# Altium schematic symbol library MB_MAKS.SCHLIB: 70 symbols
Pins are listed as number, name and electrical type; pins without a type are passive.

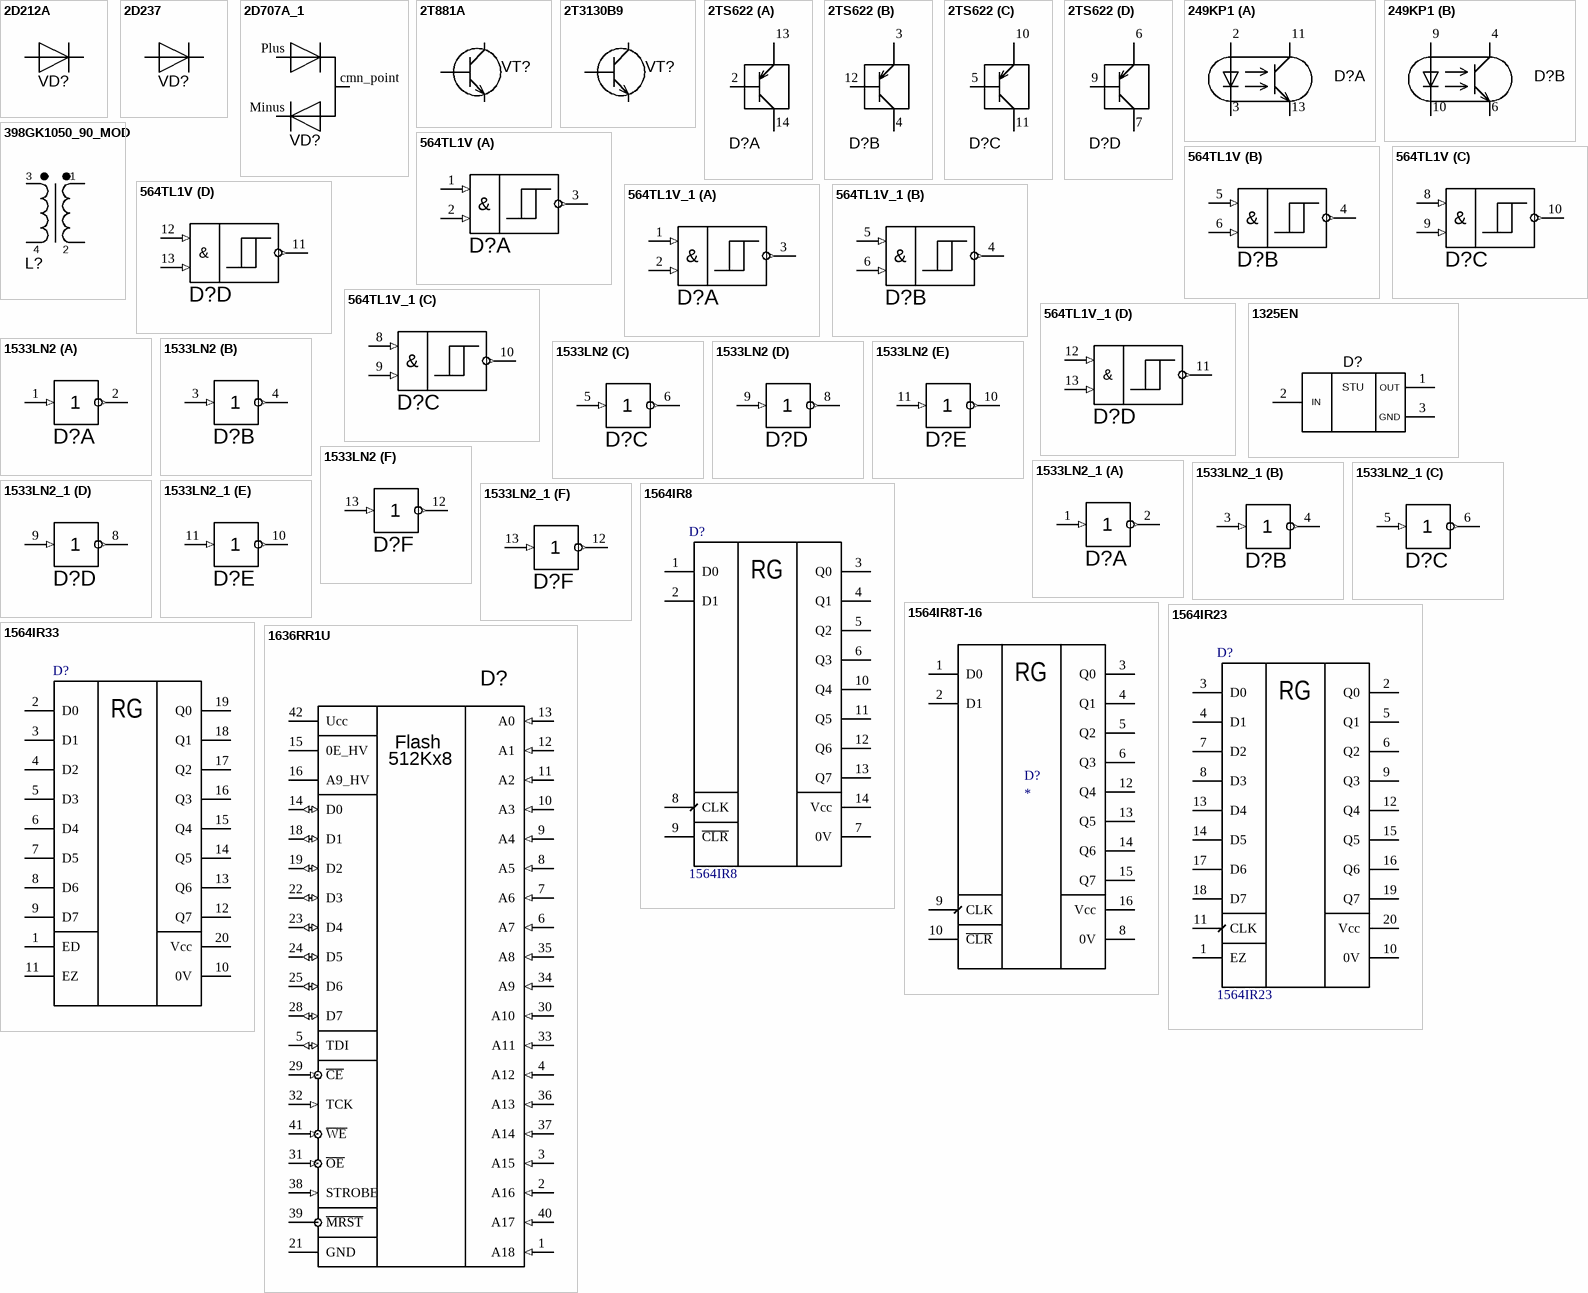
[diagram p0: symbols 2D212A to 1636RR1U]

## 2D212A
designator VD?  (value not drawn)
2Д212А; Specific: Ц23.362.006ТУ; ScrSpecific: АЕЯР.430204.190ТУ; TypeElement: Диод; Screening: ОС; Script: [TypeElement] [Name] [Screening]; Name: 2Д212А
pins: Minus, Plus

## 2D237
designator VD?  (value not drawn)
TypeElement: Диод; Name: 2Д237; Modification: А; Script: [TypeElement] [Name][Modification]; Specific: аА0.339.600ТУ; Value: *
pins: Minus, Plus

## 2D707A_1
designator VD?  (value not drawn)
TypeElement: Диод; Name: 2Д707; Modification: АС9; Script: [TypeElement] [Name][Modification]; Specific: аА0.339.583ТУ; Value: *
pins: cmn_point, Minus, Plus

## 2T881A
designator VT?  (value not drawn)
n-p-n; Specific: аА0.339.644ТУ; ScrSpecific: П0.070.052; TypeElement: Транзистор; Name: 2Т881А; Screening: ОСМ; Script: [TypeElement] [Name] [Screening]; Value: *
pins: B, C, E

## 2T3130B9
designator VT?  (value not drawn)
n-p-n; TypeElement: Транзистор; Name: 2Т3130; Modification: Б9; Screening: ОСМ; Script: [TypeElement] [Name][Modification] [Screening]; Specific: аА0.339.559ТУ; ScrSpecific: П0.070.052; Value: *
pins: B, C, E

## 2TS622
designator D?  (value not drawn)
4x p-n-p; Specific: И93.456.001ТУ/Д6; ScrSpecific: аА0.339.190ТУ; TypeElement: Матрица транзисторная; Name: 2ТС622А; Screening: ОС; Script: [TypeElement] [Name] [Screening]
pins on every part: 1 hidden, 8 hidden
part A pins: 2 Base, 13 Emitter, 14 Collector
part B pins: 3 Emitter, 4 Collector, 12 Base
part C pins: 5 Base, 10 Emitter, 11 Collector
part D pins: 6 Emitter, 7 Collector, 9 Base

## 249KP1
designator D?  (value not drawn)
249КП1; Specific: 1Х3.438.000ТУ; ScrSpecific: П0.070.052; TypeElement: Микросхема; Screening: ОСМ; Script: [TypeElement] [Screening] [Name][Modification]; Modification: С; Name: 249КП1
pins on every part: 1 hidden, 5 hidden, 7 hidden, 8 hidden, 12 hidden, 14 hidden
part A pins: 2 IN-H, 3 IN-L, 11 OUT-C, 13 OUT-E
part B pins: 4 OUT-C, 6 OUT-E, 9 IN-H, 10 IN-L

## 398GK1050_90_MOD
designator L?  (value not drawn)
TypeElement: Дроссель; Name: 398ГК.1050-90; Script: [TypeElement] [Name]; Value: *
text: 3; 1; 4; 2

## 564TL1V
designator D?  (value not drawn)
Specific: бК0.347.064ТУ31; ScrSpecific: П0.070.052; TypeElement: Микросхема; Screening: ОСМ; Name: 564ТЛ1В; Script: [TypeElement] [Screening] [Name]; Value: *
pins on every part: 7 GND (power) hidden to GND, 14 +5V (power) hidden to 5V_1
part A pins: 1 IN (in), 2 IN (in), 3 OUT (out)
part B pins: 4 OUT (out), 5 IN (in), 6 IN (in)
part C pins: 8 IN (in), 9 IN (in), 10 OUT (out)
part D pins: 11 OUT (out), 12 IN (in), 13 IN (in)
part A text: &
part B text: &
part C text: &
part D text: &

## 564TL1V_1
designator D?, comment 564TL1V  (value not drawn)
Specific: бК0.347.064ТУ31; ScrSpecific: П0.070.052; TypeElement: Микросхема; Screening: ОСМ; Name: 564ТЛ1В; Script: [TypeElement] [Screening] [Name]; Value: *
pins on every part: 7 GND (power) hidden to GND, 14 +5V (power) hidden to 5V_2
part A pins: 1 IN (in), 2 IN (in), 3 OUT (out)
part B pins: 4 OUT (out), 5 IN (in), 6 IN (in)
part C pins: 8 IN (in), 9 IN (in), 10 OUT (out)
part D pins: 11 OUT (out), 12 IN (in), 13 IN (in)
part A text: &
part B text: &
part C text: &
part D text: &

## 1325EN
designator D?, comment 1325ЕН  (value not drawn)
Стабилизатор 1.8 В,  2.5 В,  2.85 В,  3 В,  3.3 В, 5 В; TypeElement: Микросхема; Specific: АЕЯР.431420.762-02ТУ; Voltage: 3.3; ExistanceVoltage: 1.8;  2.5;  2.85;  3;  3.3;  5; Script: [TypeElement] [Name][Voltage]У; Name: 1325ЕН; Value: *
pins: 1 OUT, 2 IN, 3 GND
text: STU

## 1533LN2
designator D?  (value not drawn)
PowerPlus: pin14 = +5V; PowerMinus: pin7 = GND; Specific: бК0.347.364-14ТУ; ScrSpecific: П0.070.052; Name: 1533ЛН2; TypeElement: Микросхема; Screening: ОСМ; Script: [TypeElement] [Screening] [Name]; Value: *
pins on every part: 7 GND (power) hidden, 14 +5V (power) hidden to 5V_1
part A pins: 1 IN (in), 2 OUT (out)
part B pins: 3 IN (in), 4 OUT (out)
part C pins: 5 IN (in), 6 OUT (out)
part D pins: 8 OUT (out), 9 IN (in)
part E pins: 10 OUT (out), 11 IN (in)
part F pins: 12 OUT (out), 13 IN (in)

## 1533LN2_1
designator D?, comment 1533LN2  (value not drawn)
PowerPlus: pin14 = +5V; PowerMinus: pin7 = GND; Specific: бК0.347.364-14ТУ; ScrSpecific: П0.070.052; Name: 1533ЛН2; TypeElement: Микросхема; Screening: ОСМ; Script: [TypeElement] [Screening] [Name]; Value: *
pins on every part: 7 GND (power) hidden, 14 +5V (power) hidden to 5V_2
part A pins: 1 IN (in), 2 OUT (out)
part B pins: 3 IN (in), 4 OUT (out)
part C pins: 5 IN (in), 6 OUT (out)
part D pins: 8 OUT (out), 9 IN (in)
part E pins: 10 OUT (out), 11 IN (in)
part F pins: 12 OUT (out), 13 IN (in)

## 1564IR8
designator D?
Микросхема 1564ИР8Т2 ЭП; Script: [TypeElement] [Name][Modification] ЭП; Modification: 2; Specific: АЕЯР.431200.424-12ТУ; TypeElement: Микросхема; Name: 1564ИР8Т
pins: 1 D0, 2 D1, 3 Q0, 4 Q1, 5 Q2, 6 Q3, 7 0V, 8 CLK, 9 ~{CLR}, 10 Q4, 11 Q5, 12 Q6, 13 Q7, 14 Vcc
text: RG

## 1564IR8T-16
designator D?
Микросхема 1564ИР8Т ЭП; Script: [TypeElement] [Name] ЭП; Specific: АЕЯР.431200.424-12ТУ; TypeElement: Микросхема; Name: 1564ИР8Т
pins: 1 D0, 2 D1, 3 Q0, 4 Q1, 5 Q2, 6 Q3, 7 NC hidden, 8 0V, 9 CLK, 10 ~{CLR}, 11 NC hidden, 12 Q4, 13 Q5, 14 Q6, 15 Q7, 16 Vcc
text: RG

## 1564IR23
designator D?
Микросхема 1564ИР23Т1 ЭП; Script: [TypeElement] [Name][Modification] ЭП; Modification: 1; Specific: АЕЯР.431200.424-29ТУ; TypeElement: Микросхема; Name: 1564ИР23Т
pins: 1 EZ, 2 Q0, 3 D0, 4 D1, 5 Q1, 6 Q2, 7 D2, 8 D3, 9 Q3, 10 0V, 11 CLK, 12 Q4, 13 D4, 14 D5, 15 Q5, 16 Q6, 17 D6, 18 D7, 19 Q7, 20 Vcc
text: RG

## 1564IR33
designator D?  (value not drawn)
Script: [TypeElement] [Name][Modification] ЭП; TypeElement: Микросхема; Name: 1564ИР33Т; Modification: 1; Specific: АЕЯР.431200.424-29ТУ
pins: 1 ED, 2 D0, 3 D1, 4 D2, 5 D3, 6 D4, 7 D5, 8 D6, 9 D7, 10 0V, 11 EZ, 12 Q7, 13 Q6, 14 Q5, 15 Q4, 16 Q3, 17 Q2, 18 Q1, 19 Q0, 20 Vcc
text: RG

## 1636RR1U
designator D?  (value not drawn)
TypeElement: Микросхема; Name: 1636РР1АУ; Script: [TypeElement] [Name]; Specific: АЕЯР.431210.647ТУ; Value: *
pins: 1 A18 (in), 2 A16 (in), 3 A15 (in), 4 A12 (in), 5 TDI (io), 6 A7 (in), 7 A6 (in), 8 A5 (in), 9 A4 (in), 10 A3 (in), 11 A2 (in), 12 A1 (in), 13 A0 (in), 14 D0 (io), 15 0E_HV, 16 A9_HV, 17 hidden, 18 D1 (io), 19 D2 (io), 20 hidden, 21 GND, 22 D3 (io), 23 D4 (io), 24 D5 (io), 25 D6 (io), 26 hidden, 27 hidden, 28 D7 (io), 29 ~{CE} (in), 30 A10 (in), 31 ~{OE} (in), 32 TCK (in), 33 A11 (in), 34 A9 (in), 35 A8 (in), 36 A13 (in), 37 A14 (in), 38 STROBE (in), 39 ~{MRST}, 40 A17 (in), 41 ~{WE} (in), 42 Ucc
text: Flash; 512Kx8

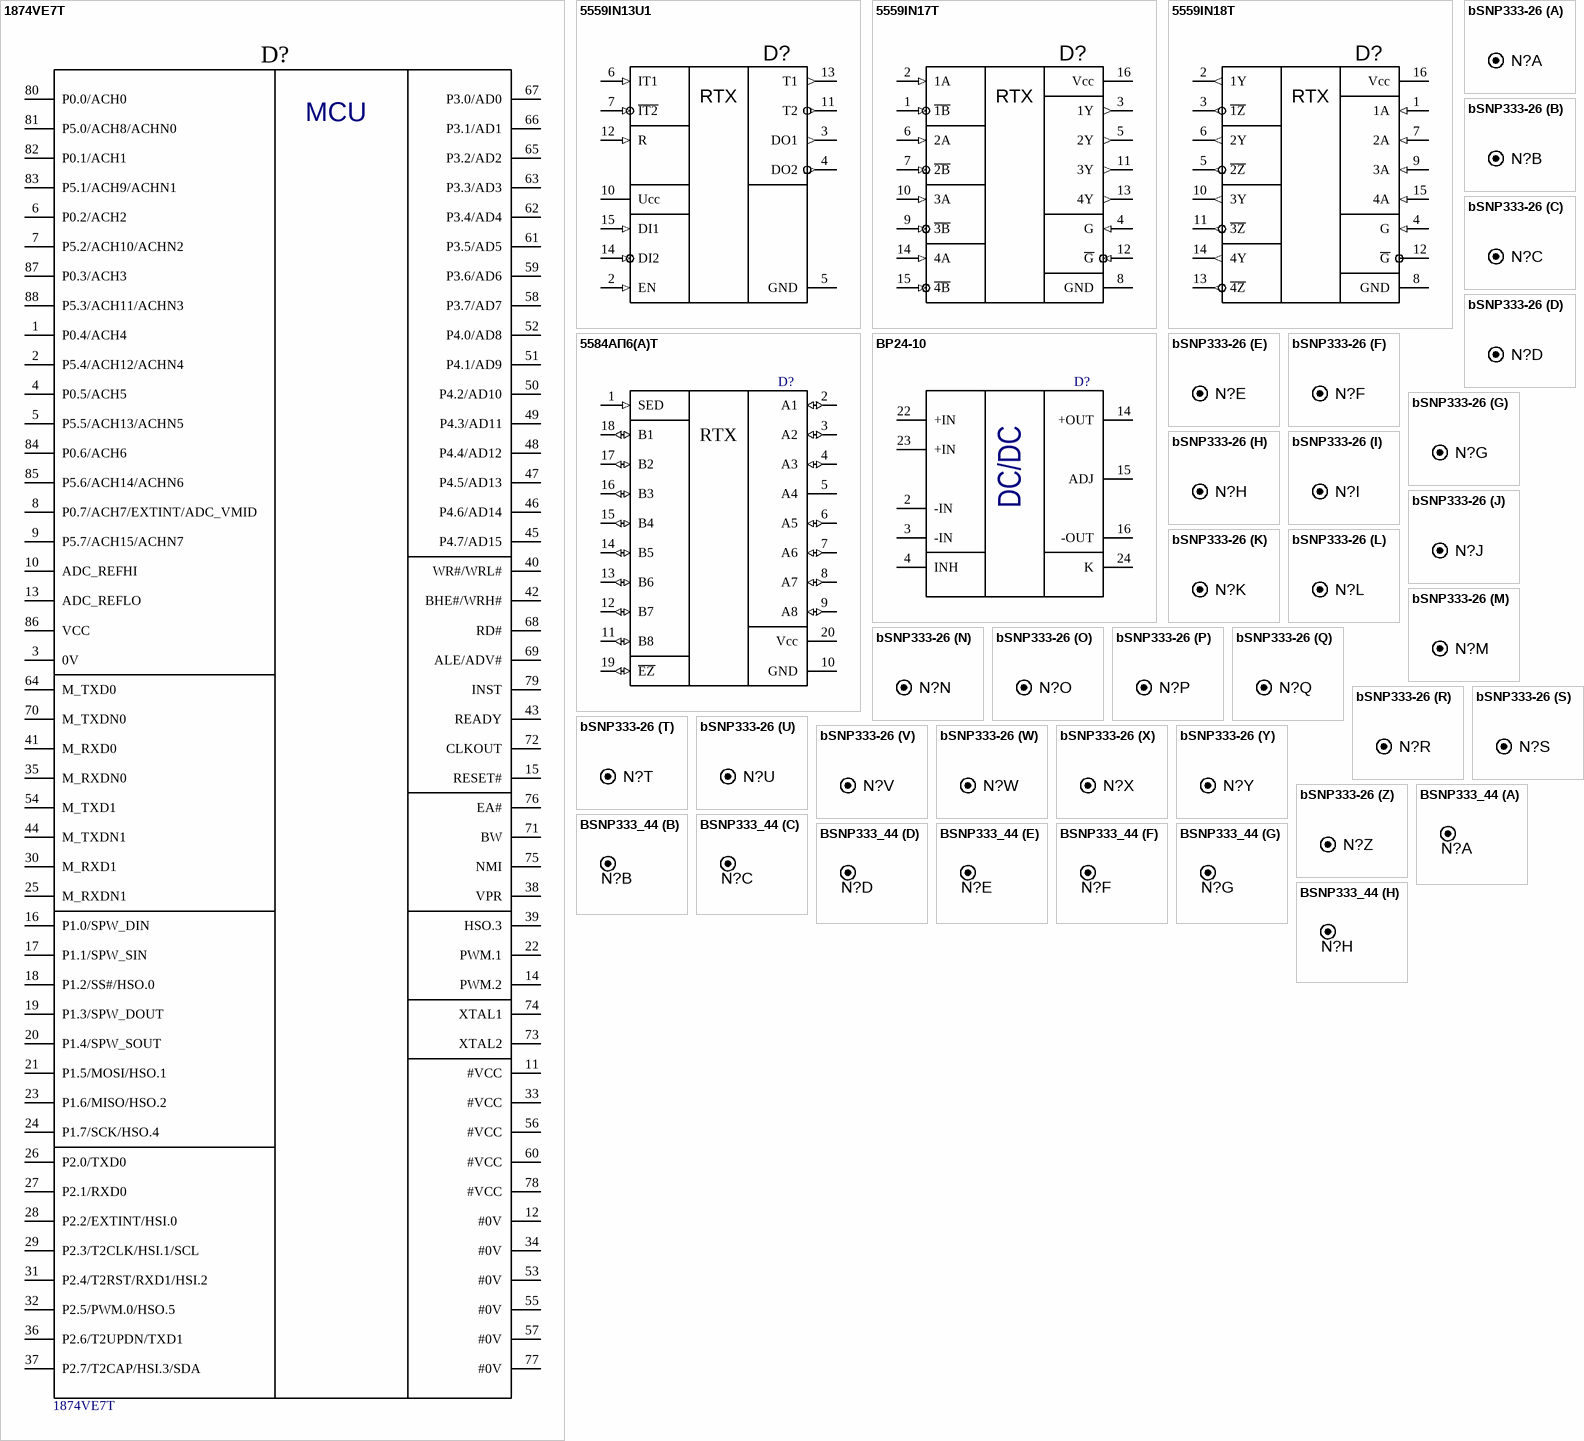
[diagram p1: symbols 1874VE7T to BSNP333_44]

## 1874VE7T
designator D?
Script: [TypeElement] [Name]; TypeElement: Микросхема; Name: 1874ВЕ7БТ; Specific: АЕЯР.431280.903ТУ
pins: 1 P0.4/ACH4, 2 P5.4/ACH12/ACHN4, 3 0V, 4 P0.5/ACH5, 5 P5.5/ACH13/ACHN5, 6 P0.2/ACH2, 7 P5.2/ACH10/ACHN2, 8 P0.7/ACH7/EXTINT/ADC_VMID, 9 P5.7/ACH15/ACHN7, 10 ADC_REFHI, 11 #VCC, 12 #0V, 13 ADC_REFLO, 14 PWM.2, 15 RESET#, 16 P1.0/SPW_DIN, 17 P1.1/SPW_SIN, 18 P1.2/SS#/HSO.0, 19 P1.3/SPW_DOUT, 20 P1.4/SPW_SOUT, 21 P1.5/MOSI/HSO.1, 22 PWM.1, 23 P1.6/MISO/HSO.2, 24 P1.7/SCK/HSO.4, 25 M_RXDN1, 26 P2.0/TXD0, 27 P2.1/RXD0, 28 P2.2/EXTINT/HSI.0, 29 P2.3/T2CLK/HSI.1/SCL, 30 M_RXD1, 31 P2.4/T2RST/RXD1/HSI.2, 32 P2.5/PWM.0/HSO.5, 33 #VCC, 34 #0V, 35 M_RXDN0, 36 P2.6/T2UPDN/TXD1, 37 P2.7/T2CAP/HSI.3/SDA, 38 VPR, 39 HSO.3, 40 WR#/WRL#, 41 M_RXD0, 42 BHE#/WRH#, 43 READY, 44 M_TXDN1, 45 P4.7/AD15, 46 P4.6/AD14, 47 P4.5/AD13, 48 P4.4/AD12, 49 P4.3/AD11, 50 P4.2/AD10, 51 P4.1/AD9, 52 P4.0/AD8, 53 #0V, 54 M_TXD1, 55 #0V, 56 #VCC, 57 #0V, 58 P3.7/AD7, 59 P3.6/AD6, 60 #VCC, 61 P3.5/AD5, 62 P3.4/AD4, 63 P3.3/AD3, 64 M_TXD0, 65 P3.2/AD2, 66 P3.1/AD1, 67 P3.0/AD0, 68 RD#, 69 ALE/ADV#, 70 M_TXDN0, 71 BW, 72 CLKOUT, 73 XTAL2, 74 XTAL1, 75 NMI, 76 EA#, 77 #0V, 78 #VCC, 79 INST, 80 P0.0/ACH0, 81 P5.0/ACH8/ACHN0, 82 P0.1/ACH1, 83 P5.1/ACH9/ACHN1, 84 P0.6/ACH6, 85 P5.6/ACH14/ACHN6, 86 VCC, 87 P0.3/ACH3, 88 P5.3/ACH11/ACHN3
text: MCU

## 5559IN13U1
designator D?  (value not drawn)
TypeElement: Микросхема; Name: 5559ИН13У1; Script: [TypeElement] [Name]; Specific: АЕЯР.431230.652ТУ; Value: *
pins: 1 hidden, 2 EN (in), 3 DO1 (out), 4 DO2 (out), 5 GND, 6 IT1 (in), 7 ~{IT2} (in), 8 hidden, 9 hidden, 10 Ucc (power), 11 T2 (out), 12 R (in), 13 T1 (out), 14 DI2 (in), 15 DI1 (in), 16 hidden
text: RTX

## 5559IN17T
designator D?  (value not drawn)
TypeElement: Микросхема; Name: 5559ИН17Т; Script: [TypeElement] [Name]; Specific: АЕЯР.431230.652ТУ; Value: *
pins: 1 ~{1В} (in), 2 1A (in), 3 1Y (out), 4 G (in), 5 2Y (out), 6 2А (in), 7 ~{2В} (in), 8 GND, 9 ~{3В} (in), 10 3А (in), 11 3Y (out), 12 ~{G} (in), 13 4Y (out), 14 4А (in), 15 ~{4В} (in), 16 Vcc
text: RTX

## 5559IN18T
designator D?  (value not drawn)
TypeElement: Микросхема; Name: 5559ИН18Т; Script: [TypeElement] [Name]; Specific: АЕЯР.431230.652ТУ; Value: *
pins: 1 1A (in), 2 1Y (out), 3 ~{1Z} (out), 4 G (in), 5 ~{2Z} (out), 6 2Y (out), 7 2А (in), 8 GND, 9 3А (in), 10 3Y (out), 11 ~{3Z} (out), 12 ~{G}, 13 ~{4Z} (out), 14 4Y (out), 15 4А (in), 16 Vcc
text: RTX

## 5584АП6(А)Т
designator D?  (value not drawn)
Script: [TypeElement] [Name]; TypeElement: Микросхема; Name: 5584АП6(А)Т; Specific: *; Value: *
pins: 1 SED (in), 2 A1 (io), 3 A2 (io), 4 A3 (io), 5 A4, 6 А5 (io), 7 А6 (io), 8 А7 (io), 9 А8 (io), 10 GND, 11 B8 (io), 12 B7 (io), 13 B6 (io), 14 B5 (io), 15 B4 (io), 16 B3 (io), 17 B2 (io), 18 B1 (io), 19 ~{EZ} (io), 20 Vcc (power)
text: RTX

## BP24-10
designator D?  (value not drawn)
ВР24-10-5/2; Script: [Name]-[Modification]; Specific: ТУ 6390-001-61704169-10; Modification: 5/2; Name: ВР24-10
pins: 2 -IN, 3 -IN, 4 INH, 9 NC hidden, 11 NC hidden, 14 +OUT, 15 ADJ, 16 -OUT, 22 +IN, 23 +IN, 24 K
text: DC/DC

## bSNP333-26
designator N?  (value not drawn)
board analog SNP333-26
part A pins: 1
part B pins: 2
part C pins: 3
part D pins: 4
part E pins: 5
part F pins: 6
part G pins: 7
part H pins: 8
part I pins: 9
part J pins: 10
part K pins: 11
part L pins: 12
part M pins: 13
part N pins: 14
part O pins: 15
part P pins: 16
part Q pins: 17
part R pins: 18
part S pins: 19
part T pins: 20
part U pins: 21
part V pins: 22
part W pins: 23
part X pins: 24
part Y pins: 25
part Z pins: 26

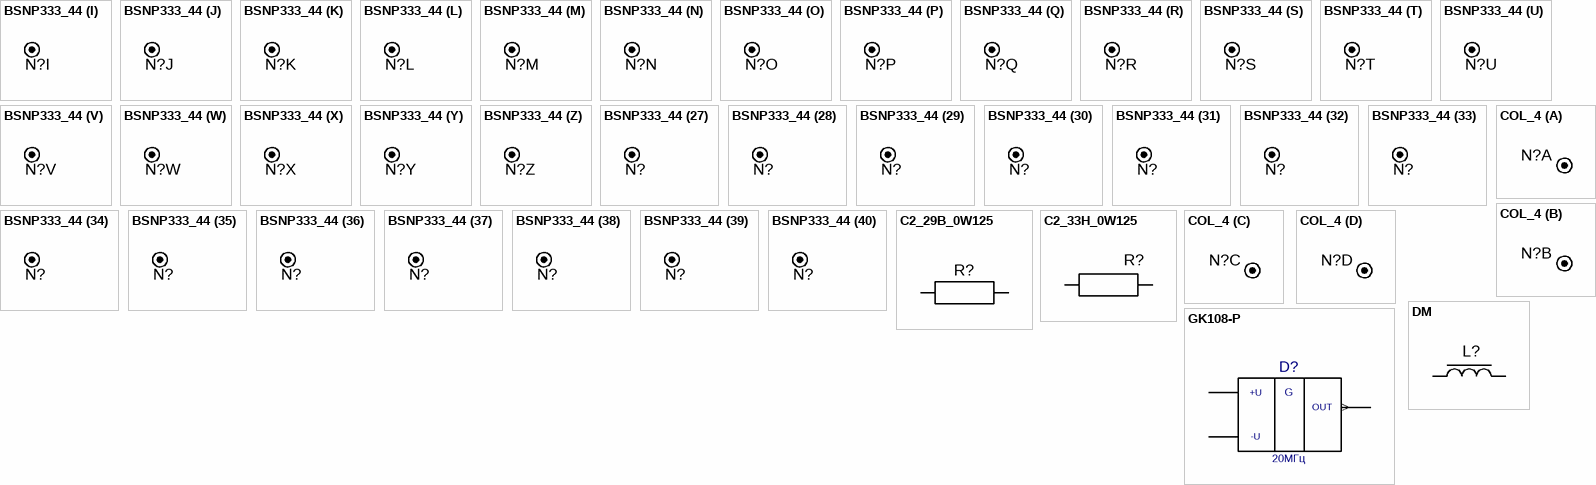
[diagram p2: symbols BSNP333_44 to GK108-P]

## BSNP333_44
designator N?  (value not drawn)
печатный аналог соединителя СНП333-44; Value: *
part A pins: 1
part B pins: 2
part C pins: 3
part D pins: 4
part E pins: 5
part F pins: 6
part G pins: 7
part H pins: 8
part I pins: 9
part J pins: 10
part K pins: 11
part L pins: 12
part M pins: 13
part N pins: 14
part O pins: 15
part P pins: 16
part Q pins: 17
part R pins: 18
part S pins: 19
part T pins: 20
part U pins: 21
part V pins: 22
part W pins: 23
part X pins: 24
part Y pins: 25
part Z pins: 26
part 27 pins: 27
part 28 pins: 28
part 29 pins: 29
part 30 pins: 30
part 31 pins: 31
part 32 pins: 32
part 33 pins: 33
part 34 pins: 34
part 35 pins: 35
part 36 pins: 36
part 37 pins: 37
part 38 pins: 38
part 39 pins: 39
part 40 pins: 40
part 41 pins: 41
part 42 pins: 42
part 43 pins: 43
part 44 pins: 44

## C2_29B_0W125
designator R?  (value not drawn)
Value: {Value}; TypeElement: Резистор; Screening: ОС; Name: С2-29В-0,125; Tolerance: ±0,5%; Modification: 1,0-А; Script: [TypeElement] [Screening] [Name]-[Value][Tolerance]-[Modification]; Specific: ОЖ0.467.099ТУ; ScrSpecific: ОЖ0.467.138ТУ
pins: 1, 2

## C2_33H_0W125
designator R?  (value not drawn)
Value: 1 Ом; Specific: ОЖ0.467.093ТУ; ScrSpecific: ОЖ0.467.138ТУ; TypeElement: Резистор; Screening: ОС; Name: С2-33Н-0,125; Tolerance: ±5%; Script: [TypeElement] [Screening] [Name]-[Value]Ом[Tolerance]-[Modification]; Modification: А-Д-В
pins: 1 i/o, 2 i/o

## COL_4
designator N?  (value not drawn)
Value: *
part A pins: 1
part B pins: 2
part C pins: 3
part D pins: 4

## DM
designator L?  (value not drawn)
Value: 11; TypeElement: Дроссель высокочастотный; Name: ДМ; Note: Current - ток (А), Value - индуктивность (мкГн); Script: [TypeElement] [Name]-[Current]-[Value][Tolerance]В; Specific: ЦКСН.671342.001ТУ; Current: 0,8; Tolerance: ±5%
pins: 1, 2

## GK108-P
designator D?  value 20МГц  (hidden comment: GK108-P)
ГК108-П; TypeElement: Генератор кварцевый; Frequency: 20 М; Script: [TypeElement] [Name]-[Frequency]; Specific: АФТП.433520.007ТУ; Name: ГК108-П
pins: 1 hidden, 2 -U, 3 OUT (out), 4 +U
text: G

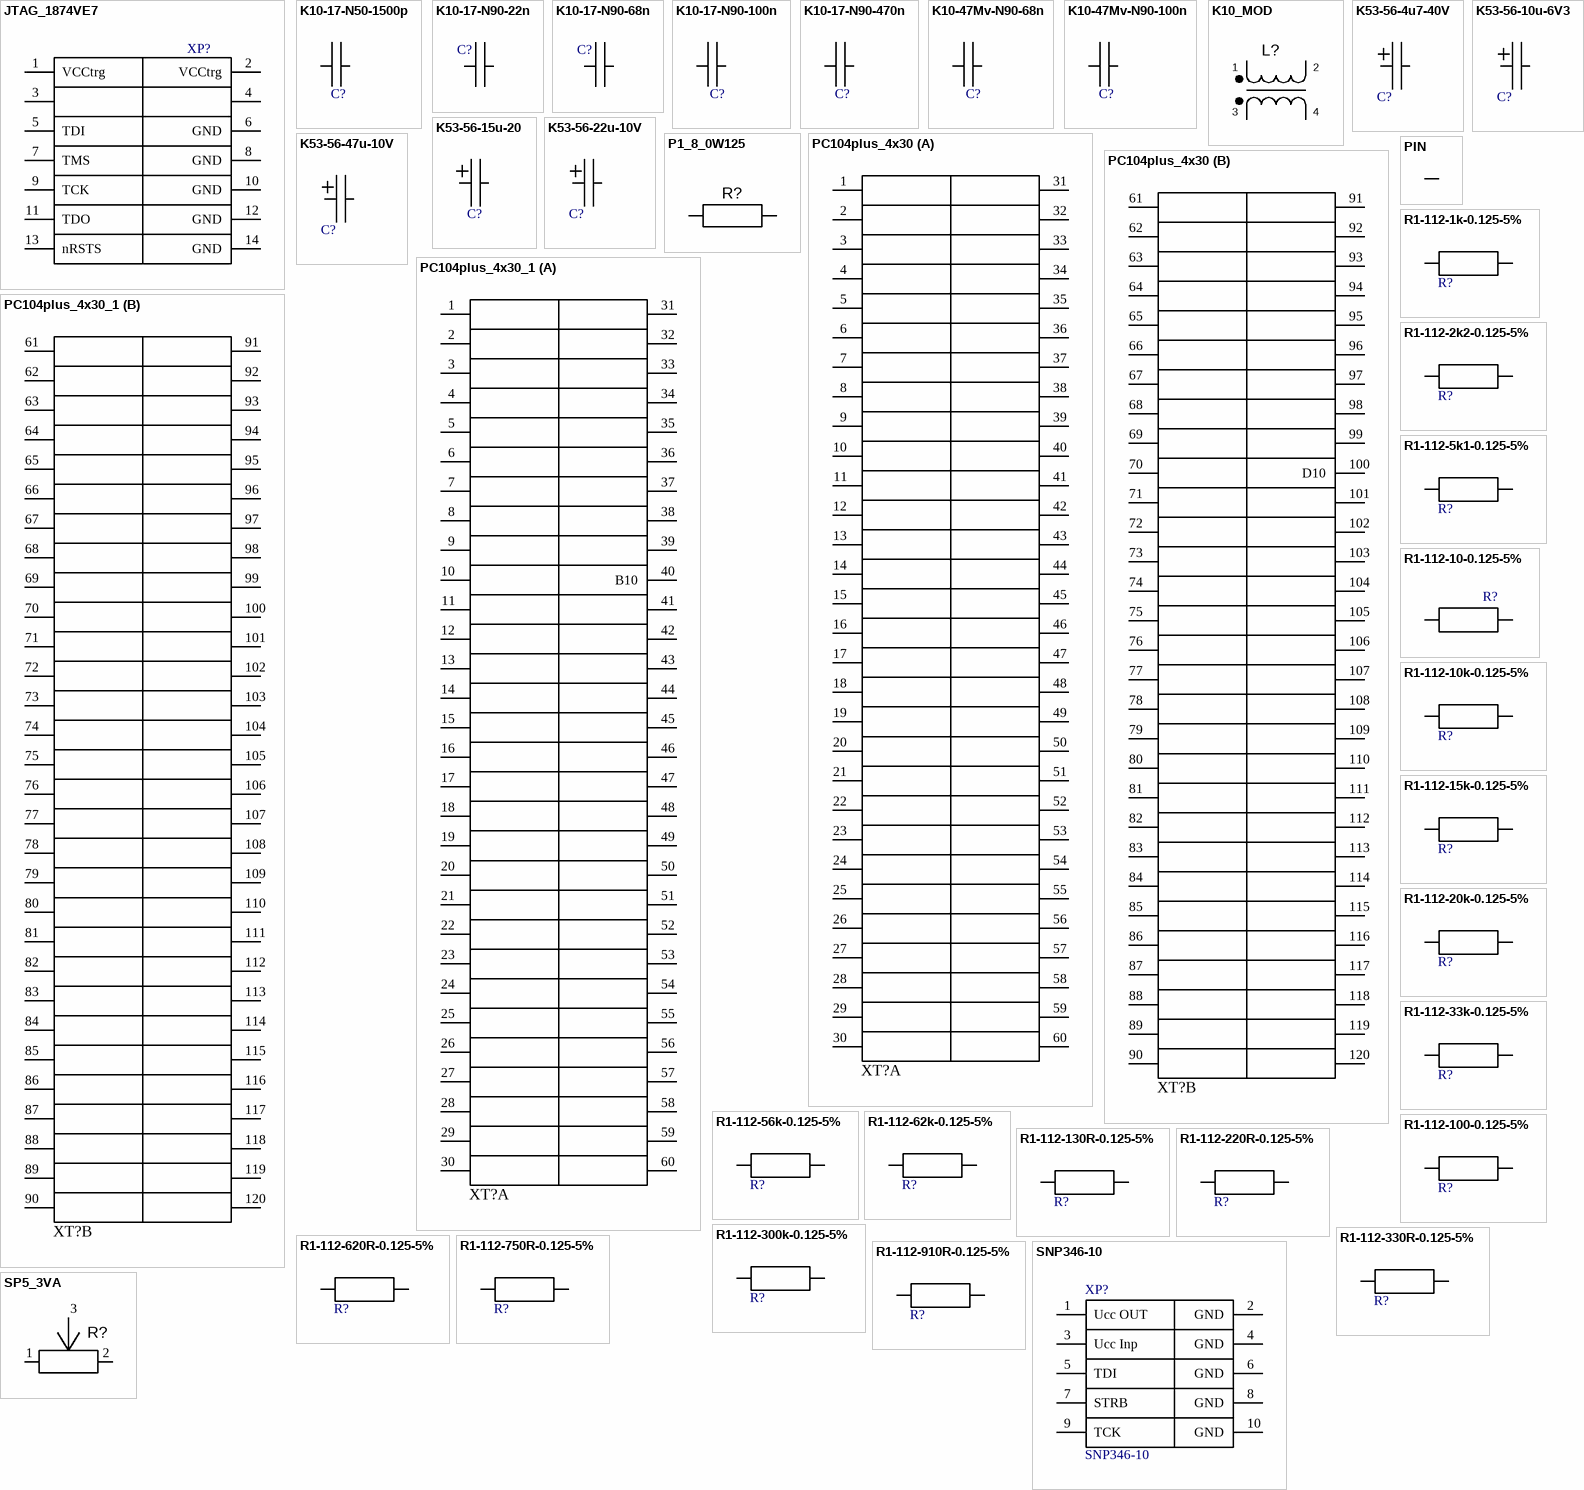
[diagram p3: symbols JTAG_1874VE7 to SP5_3VA]

## JTAG_1874VE7
designator XP?  (value not drawn)
Соединитель СНП346-14ВП21-1-В; Script: [TypeElement] [Name]; Specific: РЮМК.430420.011ТУ; TypeElement: Соединитель; Name: СНП346-14ВП21-1-В
pins: 1 VCCtrg, 2 VCCtrg, 3, 4, 5 TDI, 6 GND, 7 TMS, 8 GND, 9 TCK, 10 GND, 11 TDO, 12 GND, 13 nRSTS, 14 GND

## K10-17-N50-1500p
designator C?  (value not drawn)
Конденсатор К10-17с-в-Н50-1500 пФ; Specific: ОЖ0.460.107ТУ; ScrSpecific: ОЖ0.460.183ТУ; Script: Конденсатор [Screening] К10-17с-в-Н50-1500 пФ; Screening: ОС
pins: 1, 2

## K10-17-N90-22n
designator C?  (value not drawn)
Конденсатор К10-17в-Н90-0,022мкФ; Specific: ОЖ0.460.107ТУ; ScrSpecific: ОЖ0.460.183ТУ; Script: Конденсатор [Screening] К10-17в-Н90-0,022 мкФ; Screening: ОС
pins: 1, 2

## K10-17-N90-68n
designator C?  (value not drawn)
Конденсатор К10-17в-Н90-0,068мкФ; Specific: ОЖ0.460.107ТУ; ScrSpecific: ОЖ0.460.183ТУ; Script: Конденсатор [Screening] К10-17в-Н90-0,068 мкФ; Screening: ОС
pins: 1, 2

## K10-17-N90-100n
designator C?  (value not drawn)
Конденсатор К10-17с-в-Н90-0,1 мкФ; Specific: ОЖ0.460.107ТУ; ScrSpecific: ОЖ0.460.183ТУ; Script: Конденсатор [Screening] К10-17с-в-Н90-0,1 мкФ; Screening: ОС
pins: 1, 2

## K10-17-N90-470n
designator C?  (value not drawn)
Конденсатор К10-17с-в-Н90-0,47 мкФ; Specific: ОЖ0.460.107ТУ; ScrSpecific: ОЖ0.460.183ТУ; Script: Конденсатор [Screening] К10-17с-в-Н90-0,47 мкФ; Screening: ОС
pins: 1, 2

## K10-47Mv-N90-68n
designator C?  (value not drawn)
Конденсатор К10-47Мв-3216М-100 В-0,068 мкФ-Н90; Specific: ОЖ0.460.174-М ТУ; Script: Конденсатор К10-47Мв-3216М-100 В-0,068 мкФ-Н90
pins: 1, 2

## K10-47Mv-N90-100n
designator C?  (value not drawn)
Конденсатор К10-47Мв-4532М-100 В-0,1 мкФ-Н90; Specific: ОЖ0.460.174-М ТУ; Script: Конденсатор К10-47Мв-4532М-100 В-0,1 мкФ-Н90
pins: 1, 2

## K10_MOD
designator L?  (value not drawn)
TypeElement: Дроссель; Name: К10; Script: [TypeElement] [Name]; Specific: СЛИЮ.671342.002; Value: *
text: 1; 2; 3; 4

## K53-56-4u7-40V
designator C?  (value not drawn)
Конденсатор К53-56-40 В-4,7 мкФ±20%-В; Specific: АЖЯР.673546.001ТУ; Script: Конденсатор К53-56-40 В-4,7 мкФ±20%-В
pins: 1 plus, 2 minus

## K53-56-10u-6V3
designator C?  (value not drawn)
Конденсатор К53-56-6,3 В-10 мкФ±20%-В; Specific: АЖЯР.673546.001ТУ; Script: Конденсатор К53-56-6,3 В-10 мкФ±20%-В
pins: 1 plus, 2 minus

## K53-56-15u-20
designator C?  (value not drawn)
Конденсатор К53-56-20 В-15 мкФ±20%-В; Specific: АЖЯР.673546.001ТУ; Script: Конденсатор К53-56-20 В-15 мкФ±20%-В
pins: 1 plus, 2 minus

## K53-56-22u-10V
designator C?  (value not drawn)
Конденсатор К53-56-10 В-22 мкФ±20%-В; Specific: АЖЯР.673546.001ТУ; Script: Конденсатор К53-56-10 В-22 мкФ±20%-В
pins: 1 plus, 2 minus

## K53-56-47u-10V
designator C?  (value not drawn)
Конденсатор К53-56-10 В-47 мкФ±20%-В; Specific: АЖЯР.673546.001ТУ; Script: Конденсатор К53-56-10 В-47 мкФ±20%-В
pins: 1 plus, 2 minus

## P1_8_0W125
designator R?  (value not drawn)
chip; Value: {Value}; TypeElement: Резистор; Screening: ОСМ; Name: Р1-8МП-0,125; Tolerance: {±0,5%}; Modification: 0,5-Л; Script: [TypeElement] [Screening] [Name]-[Value]Ом[Tolerance]-[Modification]; ExistTolerance: ±0,1%; ±0,25%; ±0,5%; ±1%; Voltage: 50 В; Specific: ОЖ0.467.164ТУ; ScrSpecific: П0.070.052; CaseType: 0805
pins: 1, 2

## PC104plus_4x30
designator XT?  (value not drawn)
PC104+ KPC120; Modification: SR060TAN; Script: [TypeElement] [Name][Modification]; TypeElement: Соединитель; Name: KPC120
part A pins: 1 A1, 2 A2, 3 A3, 4 A4, 5 A5, 6 A6, 7 A7, 8 A8, 9 A9, 10 A10, 11 A11, 12 A12, 13 A13, 14 A14, 15 A15, 16 A16, 17 A17, 18 A18, 19 A19, 20 A20, 21 A21, 22 A22, 23 A23, 24 A24, 25 A25, 26 A26, 27 A27, 28 A28, 29 A29, 30 A30, 31 B1, 32 B2, 33 B3, 34 B4, 35 B5, 36 B6, 37 B7, 38 B8, 39 B9, 40 B10, 41 B11, 42 B12, 43 B13, 44 B14, 45 B15, 46 B16, 47 B17, 48 B18, 49 B19, 50 B20, 51 B21, 52 B22, 53 B23, 54 B24, 55 B25, 56 B26, 57 B27, 58 B28, 59 B29, 60 B30
part B pins: 61 C1, 62 C2, 63 C3, 64 C4, 65 C5, 66 C6, 67 C7, 68 C8, 69 C9, 70 C10, 71 C11, 72 C12, 73 C13, 74 C14, 75 C15, 76 C16, 77 C17, 78 C18, 79 C19, 80 C20, 81 C21, 82 C22, 83 C23, 84 C24, 85 C25, 86 C26, 87 C27, 88 C28, 89 C29, 90 C30, 91 D1, 92 D2, 93 D3, 94 D4, 95 D5, 96 D6, 97 D7, 98 D8, 99 D9, 100 D10, 101 D11, 102 D12, 103 D13, 104 D14, 105 D15, 106 D16, 107 D17, 108 D18, 109 D19, 110 D20, 111 D21, 112 D22, 113 D23, 114 D24, 115 D25, 116 D26, 117 D27, 118 D28, 119 D29, 120 D30

## PC104plus_4x30_1
designator XT?, comment PC104plus_4x30  (value not drawn)
PC104+ KPC120; Modification: SR060TAN; Script: [TypeElement] [Name][Modification]; TypeElement: Соединитель; Name: KPC120
part A pins: 1 A1, 2 A2, 3 A3, 4 A4, 5 A5, 6 A6, 7 A7, 8 A8, 9 A9, 10 A10, 11 A11, 12 A12, 13 A13, 14 A14, 15 A15, 16 A16, 17 A17, 18 A18, 19 A19, 20 A20, 21 A21, 22 A22, 23 A23, 24 A24, 25 A25, 26 A26, 27 A27, 28 A28, 29 A29, 30 A30, 31 B1, 32 B2, 33 B3, 34 B4, 35 B5, 36 B6, 37 B7, 38 B8, 39 B9, 40 B10, 41 B11, 42 B12, 43 B13, 44 B14, 45 B15, 46 B16, 47 B17, 48 B18, 49 B19, 50 B20, 51 B21, 52 B22, 53 B23, 54 B24, 55 B25, 56 B26, 57 B27, 58 B28, 59 B29, 60 B30
part B pins: 61 C1, 62 C2, 63 C3, 64 C4, 65 C5, 66 C6, 67 C7, 68 C8, 69 C9, 70 C10, 71 C11, 72 C12, 73 C13, 74 C14, 75 C15, 76 C16, 77 C17, 78 C18, 79 C19, 80 C20, 81 C21, 82 C22, 83 C23, 84 C24, 85 C25, 86 C26, 87 C27, 88 C28, 89 C29, 90 C30, 91 D1, 92 D2, 93 D3, 94 D4, 95 D5, 96 D6, 97 D7, 98 D8, 99 D9, 100 D10, 101 D11, 102 D12, 103 D13, 104 D14, 105 D15, 106 D16, 107 D17, 108 D18, 109 D19, 110 D20, 111 D21, 112 D22, 113 D23, 114 D24, 115 D25, 116 D26, 117 D27, 118 D28, 119 D29, 120 D30

## PIN
designator L?  (value not drawn)
Value: *
pins: 1

## R1-112-1k-0.125-5%
designator R?  (value not drawn)
Резистор Р1-112-0,125-1 кОм±5%-К-А; Specific: ДАРГ.434110.004ТУ; Script: Резистор Р1-112-0,125-1 кОм±5%-К-А
pins: 1, 2

## R1-112-2k2-0.125-5%
designator R?  (value not drawn)
Резистор Р1-112-0,125-2,2 кОм±5%-К-А; Specific: ДАРГ.434110.004ТУ; Script: Резистор Р1-112-0,125-2,2 кОм±5%-К-А
pins: 1, 2

## R1-112-5k1-0.125-5%
designator R?  (value not drawn)
Резистор Р1-112-0,125-5,1 кОм±5%-К-А; Specific: ДАРГ.434110.004ТУ; Script: Резистор Р1-112-0,125-5,1 кОм±5%-К-А
pins: 1, 2

## R1-112-10-0.125-5%
designator R?  (value not drawn)
Резистор Р1-112-0,125-10 Ом±5%-Л-А; Specific: ДАРГ.434110.004ТУ; Script: Резистор Р1-112-0,125-100 Ом±5%-Л-А
pins: 1, 2

## R1-112-10k-0.125-5%
designator R?  (value not drawn)
Резистор Р1-112-0,125-10 кОм±5%-К-А; Specific: ДАРГ.434110.004ТУ; Script: Резистор Р1-112-0,125-10 кОм±5%-К-А
pins: 1, 2

## R1-112-15k-0.125-5%
designator R?  (value not drawn)
Резистор Р1-112-0,125-15 кОм±5%-К-А; Specific: ДАРГ.434110.004ТУ; Script: Резистор Р1-112-0,125-15 кОм±5%-К-А
pins: 1, 2

## R1-112-20k-0.125-5%
designator R?  (value not drawn)
Резистор Р1-112-0,125-20 кОм±5%-К-А; Specific: ДАРГ.434110.004ТУ; Script: Резистор Р1-112-0,125-20 кОм±5%-К-А
pins: 1, 2

## R1-112-33k-0.125-5%
designator R?  (value not drawn)
Резистор Р1-112-0,125-33 кОм±5%-К-А; Specific: ДАРГ.434110.004ТУ; Script: Резистор Р1-112-0,125-33 кОм±5%-К-А
pins: 1, 2

## R1-112-56k-0.125-5%
designator R?  (value not drawn)
Резистор Р1-112-0,125-56 кОм±5%-К-А; Specific: ДАРГ.434110.004ТУ; Script: Резистор Р1-112-0,125-56 кОм±5%-К-А
pins: 1, 2

## R1-112-62k-0.125-5%
designator R?  (value not drawn)
Резистор Р1-112-0,125-62 кОм±5%-К-А; Specific: ДАРГ.434110.004ТУ; Script: Резистор Р1-112-0,125-62 кОм±5%-К-А
pins: 1, 2

## R1-112-100-0.125-5%
designator R?  (value not drawn)
Резистор Р1-112-0,125-100 Ом±5%-К-А; Specific: ДАРГ.434110.004ТУ; Script: Резистор Р1-112-0,125-100 Ом±5%-К-А
pins: 1, 2

## R1-112-130R-0.125-5%
designator R?  (value not drawn)
Резистор Р1-112-0,125-130 Ом±5%-К-А-"А"; Specific: ДАРГ.434110.004ТУ; Script: Резистор Р1-112-0,125-130 Ом±5%-К-А-"А"
pins: 1, 2

## R1-112-220R-0.125-5%
designator R?  (value not drawn)
Резистор Р1-112-0,125-220 Ом±5%-К-А; Specific: ДАРГ.434110.004ТУ; Script: Резистор Р1-112-0,125-220 Ом±5%-К-А
pins: 1, 2

## R1-112-300k-0.125-5%
designator R?  (value not drawn)
Резистор Р1-112-0,125-300 кОм±5%-Л-А; Specific: ДАРГ.434110.004ТУ; Script: Резистор Р1-112-0,125-300 кОм±5%-Л-А
pins: 1, 2

## R1-112-330R-0.125-5%
designator R?  (value not drawn)
Резистор Р1-112-0,125-330 Ом±5%-К-А-"А"; Specific: ДАРГ.434110.004ТУ; Script: Резистор Р1-112-0,125-330 Ом±5%-К-А-"А"
pins: 1, 2

## R1-112-620R-0.125-5%
designator R?  (value not drawn)
Резистор Р1-112-0,125-620 Ом±5%-К-А-"А"; Specific: ДАРГ.434110.004ТУ; Script: Резистор Р1-112-0,125-620 Ом±5%-К-А-"А"
pins: 1, 2

## R1-112-750R-0.125-5%
designator R?  (value not drawn)
Резистор Р1-112-0,125-750 Ом±5%-К-А-"А"; Specific: ДАРГ.434110.004ТУ; Script: Резистор Р1-112-0,125-750 Ом±5%-К-А-"А"
pins: 1, 2

## R1-112-910R-0.125-5%
designator R?  (value not drawn)
Резистор Р1-112-0,125-910 Ом±5%-К-А-"А"; Specific: ДАРГ.434110.004ТУ; Script: Резистор Р1-112-0,125-910 Ом±5%-К-А-"А"
pins: 1, 2

## SNP346-10
designator XP?
Script: [TypeElement] [Name]; Specific: РЮМК.430420.011; TypeElement: Соединитель; Name: СНП346-10ВП21-1-В
pins: 1 Ucc OUT, 2 GND, 3 Ucc Inp, 4 GND, 5 TDI, 6 GND, 7 STRB, 8 GND, 9 TCK, 10 GND

## SP5_3VA
designator R?  (value not drawn)
potentiometer; Value: {Value}; Specific: ОЖ0.468.539ТУ; ScrSpecific: ОЖ0.468.560ТУ; TypeElement: Резистор; Name: СП5-3ВА-0,5Вт; Tolerance: ±5%; Script: [TypeElement] [Name]-[Value]Ом[Tolerance]
pins: 1, 2, 3

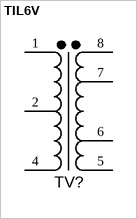
[diagram p4: symbol TIL6V]

## TIL6V
designator TV?  (value not drawn)
TypeElement: Трансформатор; Name: ТИЛ6В; Script: [TypeElenemt] ОС [Name]; Specific: АГО.472.105ТУ; ScrSpecific: АГ0.472.101ТУ; Value: *
pins: 1, 2, 3 hidden, 4, 5, 6, 7, 8